# Altium footprint library Compact Flash Reader2.PcbLib: 38 footprints (part 1 of 3)
Each footprint in its own frame and in the unit in brackets; x right, y up, seen from the top. Pads: shape width x height; smd on the part's side, far side on the other; paste and mask are expansions set on the pad; w line width, h text height; cw(c..) or ccw(c..) is an arc to the next point about the centre after c.
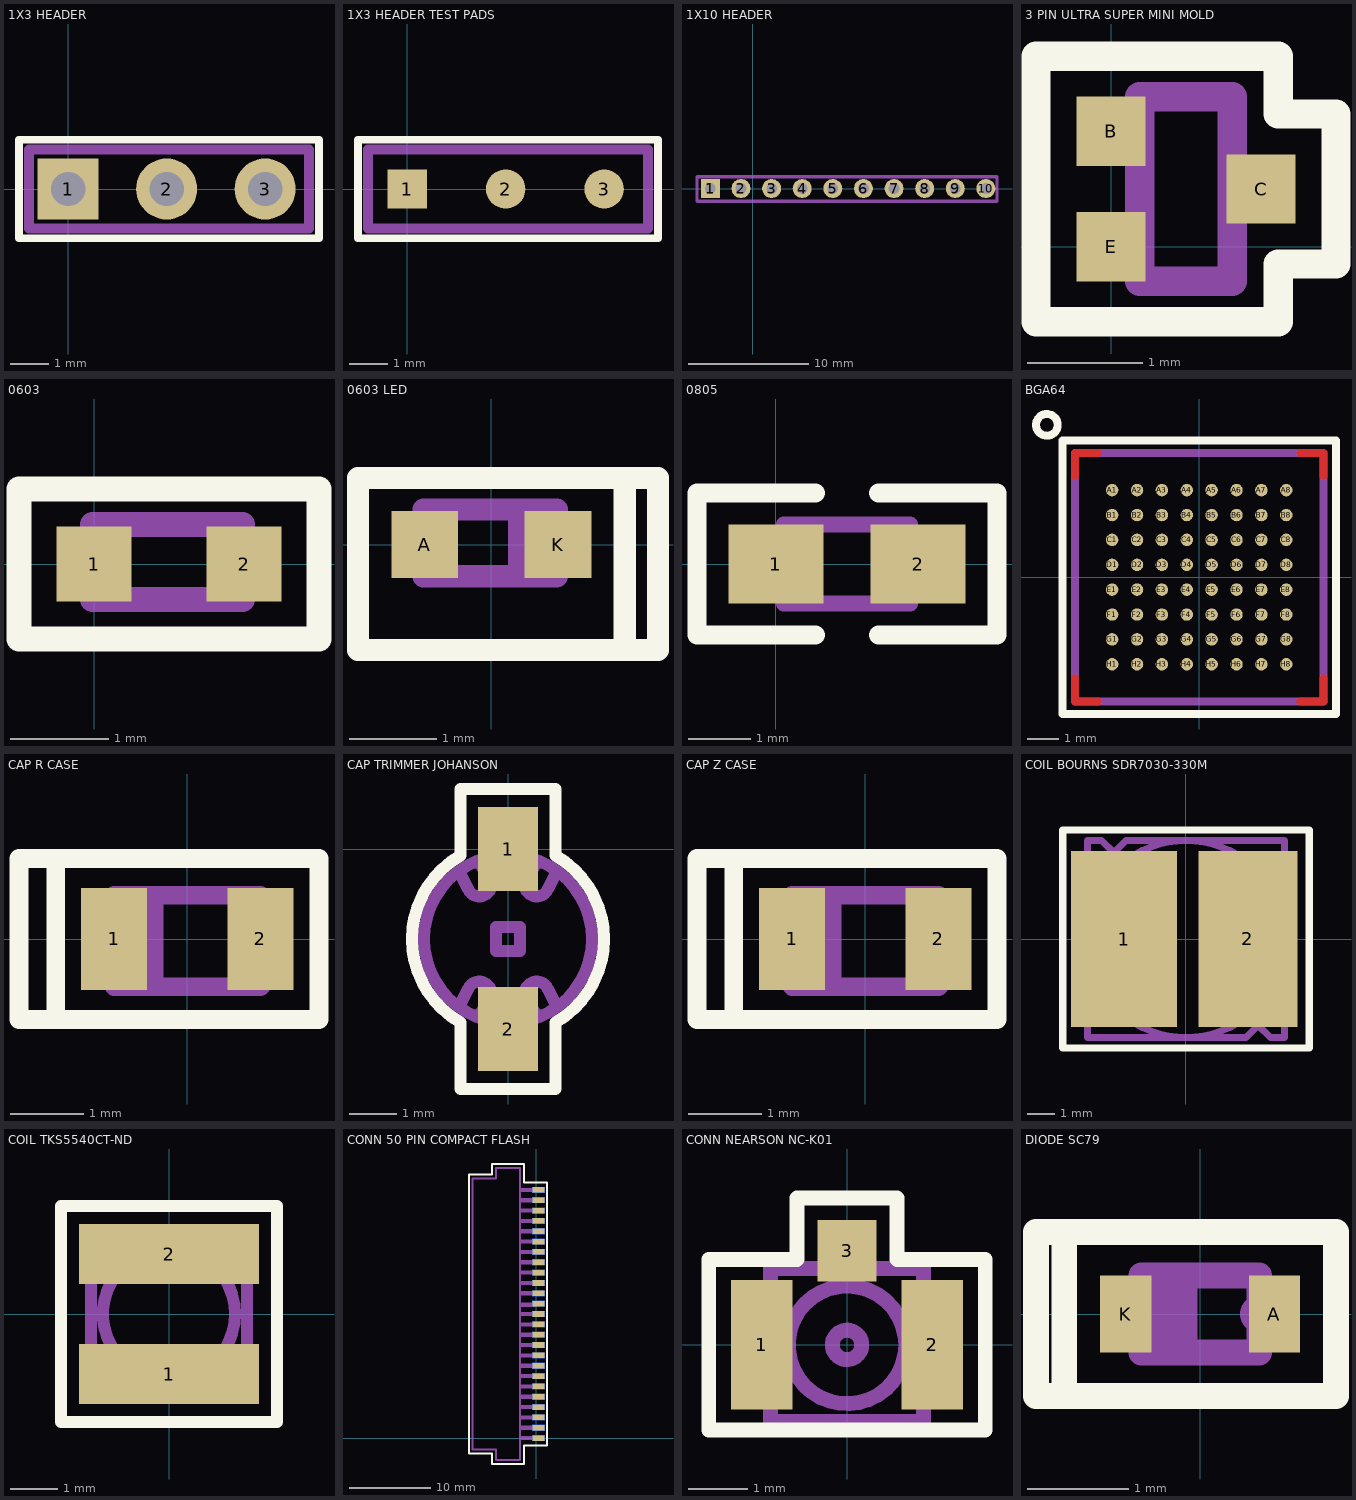
[diagram p0: the footprints below, top view; thin cyan lines are the x and y axes]

## 1X3 HEADER [mil]
pads (3):
  rect 62x62 hole 35: 1(0,0)
  round 62 hole 35: 2(100,0) 3(200,0)
Top Overlay:
  lines w8: -50,-50 -50,50 254.72,50 254.72,-50 -50,-50
Mechanical 1:
  lines w10: -40,-40 -40,40 244.72,40 244.72,-40 -40,-40

## 1X3 HEADER TEST PADS [mil]
pads (3):
  rect 40x40 smd: 1(0,0)
  round 40 smd: 2(100,0) 3(200,0)
Top Overlay:
  lines w8: -50,-50 254.72,-50 254.72,50 -50,50 -50,-50
Mechanical 1:
  lines w10: -40,-40 244.72,-40 244.72,40 -40,40 -40,-40

## 1X10 HEADER [mil]
pads (10):
  rect 62x62 hole 35: 1(-137.79,0)
  round 62 hole 35: 2(-37.79,0) 3(62.21,0) 4(162.21,0) 5(262.21,0) 6(362.21,0) 7(462.21,0) 8(562.21,0) 9(662.21,0) 10(762.21,0)
Mechanical 1:
  lines w10: -181.52,-41.55 798.48,-41.55 798.48,38.45 -181.52,38.45 -181.52,-41.55

## 3 PIN ULTRA SUPER MINI MOLD [mm]
pads (3):
  rect 0.6x0.6 smd: B(0,1) C(1.3,0.5) E(0,0)
Top Overlay:
  lines w0.254: -0.65,-0.65 -0.65,1.6 -0.65,1.65 1.45,1.65 1.45,1.15 1.95,1.15 1.95,-0.15 1.45,-0.15 1.45,-0.65 -0.65,-0.65
Mechanical 1:
  lines w0.254: 0.25,-0.15 -0.15,-0.15 -0.15,0.15 0.25,0.15 ; 0.25,0.85 -0.15,0.85 -0.15,1.15 0.25,1.15 ; 1.05,0.35 1.45,0.35 1.45,0.65 1.05,0.65 ; 0.25,-0.3 1.05,-0.3 1.05,1.3 0.25,1.3 0.25,-0.3

## 0603 [mil]
pads (2):
  rect 30x30 smd: 1(0,0) 2(60,0)
Top Overlay:
  lines w10: -30,-30 -30,0 -30,30 90,30 90,-30 -30,-30
Mechanical 1:
  lines w10: -0.53,-14.25 59.47,-14.25 59.47,15.75 -0.53,15.75 -0.53,-14.25

## 0603 LED [mil]
pads (2):
  rect 30x30 smd: A(-30,0) K(30,0)
Top Overlay:
  lines w10: 60,-47.5 60,-30 60,30 ; 60,30 -60,30 -60,0 -60,-30 -60,-47.5 75,-47.5 75,-30 75,30 60,30
Mechanical 1:
  lines w10: 12.5,-14.25 12.5,15.75 ; -30.53,-14.25 29.47,-14.25 29.47,15.75 -30.53,15.75 -30.53,-14.25

## 0805 [mil]
pads (2):
  rect 60x50 smd: 1(0,0) 2(90,0)
Top Overlay:
  lines w12: 25,-45 -50,-45 -50,45 25,45 ; 65,-45 140,-45 140,45 65,45
Mechanical 1:
  lines w10: 5,-25 85,-25 85,25 5,25 5,-25

## BGA64 [mm]
pads (64):
  round 0.4 smd: A1(-2.8,2.8) A2(-2,2.8) A3(-1.2,2.8) A4(-0.4,2.8) A5(0.4,2.8) A6(1.2,2.8) A7(2,2.8) A8(2.8,2.8) B1(-2.8,2) B2(-2,2) B3(-1.2,2) B4(-0.4,2) B5(0.4,2) B6(1.2,2) B7(2,2) B8(2.8,2) C1(-2.8,1.2) C2(-2,1.2) C3(-1.2,1.2) C4(-0.4,1.2) C5(0.4,1.2) C6(1.2,1.2) C7(2,1.2) C8(2.8,1.2) D1(-2.8,0.4) D2(-2,0.4) D3(-1.2,0.4) D4(-0.4,0.4) D5(0.4,0.4) D6(1.2,0.4) D7(2,0.4) D8(2.8,0.4) E1(-2.8,-0.4) E2(-2,-0.4) E3(-1.2,-0.4) E4(-0.4,-0.4) E5(0.4,-0.4) E6(1.2,-0.4) E7(2,-0.4) E8(2.8,-0.4) F1(-2.8,-1.2) F2(-2,-1.2) F3(-1.2,-1.2) F4(-0.4,-1.2) F5(0.4,-1.2) F6(1.2,-1.2) F7(2,-1.2) F8(2.8,-1.2) G1(-2.8,-2) G2(-2,-2) G3(-1.2,-2) G4(-0.4,-2) G5(0.4,-2) G6(1.2,-2) G7(2,-2) G8(2.8,-2) H1(-2.8,-2.8) H2(-2,-2.8) H3(-1.2,-2.8) H4(-0.4,-2.8) H5(0.4,-2.8) H6(1.2,-2.8) H7(2,-2.8) H8(2.8,-2.8)
Top Layer:
  lines w0.254: -4,-3.25 -4,-4 -3.25,-4 ; -4,3.25 -4,4 -3.25,4 ; 3.25,-4 4,-4 4,-3.25 ; 3.25,4 4,4 4,3.25
Top Overlay:
  circle w0.254: c-4.9,4.9 r0.35
  lines w0.254: -4.4,-4.4 -4.4,4.4 4.4,4.4 4.4,0 4.4,-4.4 -4.4,-4.4
Top Solder:
  lines w0.254: -4,-3.25 -4,-4 -3.25,-4 ; -4,3.25 -4,4 -3.25,4 ; 3.25,-4 4,-4 4,-3.25 ; 3.25,4 4,4 4,3.25
Mechanical 1:
  lines w0.254: -4,-4 -4,4 4,4 4,0 4,-4 -4,-4

## CAP R CASE [mm] "SMT"
height 1.2
pads (2):
  rect 0.9x1.4 smd: 1(-1,0) 2(1,0)
Top Overlay:
  lines w0.254: -1.8,-1.1 -0.95,-1.1 1.8,-1.1 1.8,0 1.8,1.1 0.95,1.1 0,1.1 -1.8,1.1 ; -1.8,-1.1 -1.8,0 -1.8,1.1 ; -1.8,-1.1 -2.3,-1.1 -2.3,0.25 -2.3,1.1 -1.8,1.1
Mechanical 1:
  lines w0.254: -0.45,0.6 -0.45,-0.65 -0.05,-0.65 ; -1,-0.65 1,-0.65 1,0.6 -1,0.6 -1,-0.65

## CAP TRIMMER JOHANSON [mil]
pads (2):
  rect 50x70 smd: 1(0,0) 2(0,-150)
Top Overlay:
  lines w10: -80,-75 ccw(c0,-75) -39.69,-144.46 -39.69,-200 0,-200 39.69,-200 39.69,-144.46 ccw(c0,-75) 80,-75 ccw(c0,-75) 39.69,-5.54 39.69,50 0,50 -39.69,50 -39.69,-5.54 ccw(c0,-75) -80,-75
Mechanical 1:
  circle w10: c0,-75 r70
  lines w10: -40,-130 -32.89,-116.06 cw(c-23.94,-120.53) -15,-125 -25,-140 ; -40,-20 -32.89,-33.94 ccw(c-23.94,-29.47) -15,-25 -25,-10 ; -10,-145 -10,-175 ; -10,-5 -10,25 ; 10,-145 10,-175 ; 10,-75 10,-65 ; 10,-5 10,25 ; 25,-140 15,-125 cw(c23.94,-120.53) 32.89,-116.06 40,-130 ; 25,-10 15,-25 ccw(c23.94,-29.47) 32.89,-33.94 40,-20 ; -10,-175 10,-175 ; -10,-175 10,-175 ; -10,25 0,25 10,25 ; -10,25 10,25 ; 10,-65 -10,-65 -10,-85 10,-85 10,-65

## CAP Z CASE [mm] "SMT"
height 1.2
pads (2):
  rect 0.9x1.4 smd: 1(-1,0) 2(1,0)
Top Overlay:
  lines w0.254: -1.8,-1.1 -2.3,-1.1 -2.3,0.25 -2.3,1.1 -1.8,1.1 ; -1.8,-1.1 -1.8,0 -1.8,1.1 ; -1.8,-1.1 -0.95,-1.1 1.8,-1.1 1.8,0 1.8,1.1 0.95,1.1 0,1.1 -1.8,1.1
Mechanical 1:
  lines w0.254: -0.45,0.6 -0.45,-0.65 -0.05,-0.65 ; -1,-0.65 -1,0.6 1,0.6 1,-0.65 -1,-0.65

## COIL BOURNS SDR7030-330M [mil]
pads (2):
  rect 150x250 smd: 1(-88,0)
  rect 140x250 smd: 2(88,0)
Top Overlay:
  lines w10: -175,-155 0,-155 175,-155 175,0 175,155 0,155 -175,155 -175,0 -175,-155
Mechanical 1:
  circle w10: c0,0 r140
  lines w10: -122.71,102.29 -140,119.58 -140,140 -120,140 -102.57,122.57 ; 102.57,-122.57 120,-140 140,-140 140,-119.58 122.71,-102.29 ; -140,-140 -140,85 -85,140 0,140 140,140 140,-85 85,-140 -140,-140

## COIL TKS5540CT-ND [mil]
pads (2):
  rect 150x50 smd: 1(0,-50) 2(0,50)
Top Overlay:
  lines w10: -90,-90 -60,-90 90,-90 90,0 90,90 60,90 -90,90 -90,0 -90,-90
Mechanical 1:
  circle w10: c0,0 r55
  lines w10: -65,-65 -65,65 65,65 65,0 65,-65 -65,-65

## CONN 50 PIN COMPACT FLASH [mil]
height 105
pads (50):
  rect 60x27 smd: 1(10,0) 2(10,50) 3(10,100) 4(10,150) 5(10,200) 6(10,250) 7(10,300) 8(10,350) 9(10,400) 10(10,450) 11(10,500) 12(10,550) 13(10,600) 14(10,650) 15(10,700) 16(10,750) 17(10,800) 18(10,850) 19(10,900) 20(10,950) 21(10,1000) 22(10,1050) 23(10,1100) 24(10,1150) 25(10,1200)
  rect 60x27 smd far side: 26(10,0) 27(10,50) 28(10,100) 29(10,150) 30(10,200) 31(10,250) 32(10,300) 33(10,350) 34(10,400) 35(10,450) 36(10,500) 37(10,550) 38(10,600) 39(10,650) 40(10,700) 41(10,750) 42(10,800) 43(10,850) 44(10,900) 45(10,950) 46(10,1000) 47(10,1050) 48(10,1100) 49(10,1150) 50(10,1200)
Top Overlay:
  lines w10: -325,-75 -215,-75 -215,-125 -60,-125 -60,-35 50,-35 50,-5 50,1205 50,1235 -60,1235 -60,1325 -75,1325 -215,1325 -215,1275 -325,1275 -325,1220 -325,-20 -325,-75
Mechanical 1:
  lines w10: -80,-5 0,-5 0,5 -80,5 ; -80,45 0,45 0,55 -80,55 ; -80,95 0,95 0,105 -80,105 ; -80,145 0,145 0,155 -80,155 ; -80,195 0,195 0,205 -80,205 ; -80,245 0,245 0,255 -80,255 ; -80,295 0,295 0,305 -80,305 ; -80,345 0,345 0,355 -80,355 ; -80,395 0,395 0,405 -80,405 ; -80,445 0,445 0,455 -80,455 ; -80,495 0,495 0,505 -80,505 ; -80,545 0,545 0,555 -80,555 ; -80,595 0,595 0,605 -80,605 ; -80,640 0,640 0,650 -80,650 ; -80,695 0,695 0,705 -80,705 ; -80,745 0,745 0,755 -80,755 ; -80,795 0,795 0,805 -80,805 ; -80,845 0,845 0,855 -80,855 ; -80,945 0,945 0,955 -80,955 ; -80,1045 0,1045 0,1055 -80,1055 ; -80,1145 0,1145 0,1155 -80,1155 ; -80,1195 0,1195 0,1205 -80,1205 ; -80,1200 -80,1210 ; 0,895 -80,895 0,895 ; 0,895 0,905 ; 0,895 0,905 ; 0,905 -80,905 0,905 ; 0,995 -80,995 0,995 ; 0,995 0,1005 ; 0,995 0,1005 ; 0,1005 -80,1005 0,1005 ; 0,1095 -80,1095 0,1095 ; 0,1095 0,1105 ; 0,1095 0,1105 ; 0,1105 -80,1105 0,1105 ; -310,-55 -310,600 -310,1255 -195,1255 -195,1305 -80,1305 -80,600 -80,-105 -195,-105 -195,-55 -310,-55
Mechanical 8:
  text ".Designator" at -215,640 h40
Mechanical 9:
  text ".Comment" at -204.68,1005.5 h40

## CONN NEARSON NC-K01 [mm]
pads (3):
  rect 1.05x2.2 smd: 1(-1.45,0) 2(1.45,0)
  rect 1x1.05 smd: 3(0,1.6)
Top Overlay:
  lines w0.254: -2.35,-1.45 -2.35,1.45 -0.85,1.45 -0.85,2.5 0,2.5 0.85,2.5 0.85,1.45 2.35,1.45 2.35,-1.45 0,-1.45 -2.35,-1.45
Mechanical 1:
  circle w0.254: c0,0 r1
  circle w0.254: c0,0 r0.25
  lines w0.254: -1.3,-0.9 -1.5,-0.9 -1.5,0 -1.5,0.9 -1.3,0.9 ; -0.3,1.3 -0.3,1.55 0,1.55 ; 0,1.3 0,1.55 ; 0.3,1.3 0.3,1.55 0,1.55 ; 1.3,-0.9 1.5,-0.9 1.5,0 1.5,0.9 1.3,0.9 ; 1.3,0 1.3,-1.3 ; -1.3,-1.3 1.3,-1.3 ; -1.3,-1.3 -1.3,1.3 1.3,1.3 1.3,-1.3 ; -1.3,-1.3 0,-1.3 -1.3,-1.3

## DIODE SC79 [mil]
pads (2):
  rect 20x30 smd: A(29,0) K(-29,0)
Top Overlay:
  lines w10: -53,-32 -64,-32 -64,32 -53,32 ; -53,-32 -53,-14 -53,32 ; -53,-32 -36,-32 53,-32 53,14 53,32 36,32 -53,32
Mechanical 1:
  lines w10: -6,15 -6,-15 -14,-15 -14,15 -23,15 ; 0,15 -23,15 ; -23,15 -23,-15 23,-15 23,15 -23,15
  lines w15: -31,0 -23,0 ; 23,0 31,0